# EAGLE library part TPS22964C (library GTA04b7)
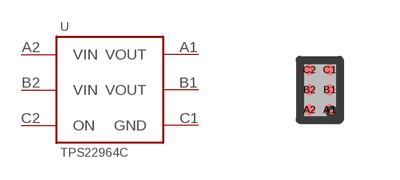
[diagram p47: symbol with the pads of R-XBGA-N6-0.5; footprint R-XBGA-N6-0.5]

Designator prefix -

## TPS22964CYZP  [R-XBGA-N6-0.5]
A1  VOUT  pwr
A2  VIN  pwr
B1  VOUT  pwr
B2  VIN  pwr
C1  GND  pwr
C2  ON  in

## Footprint R-XBGA-N6-0.5 (pad centres in mm)
TI YZP
smd 0.275 x 0.275: A1 0.25,-0.5; A2 -0.25,-0.5; B1 0.25,0; B2 -0.25,0; C1 0.25,0.5; C2 -0.25,0.5